# EAGLE library part KSZ8091RNBIA-TR (library SW_Communications)
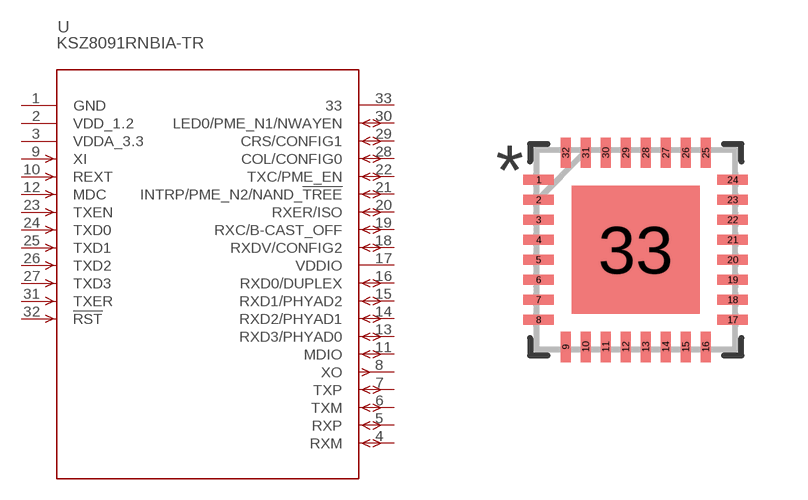
[diagram p2: symbol with the pads of QFN-32; footprint QFN-32]

Designator prefix U

## KSZ8091RNBIA-TR (CATEGORY: Communications; DESCRIPTION: 1/1 Transceiver Full MII, RMII 32-QFN (5x5); MFGS: Microchip Technology; MPNS: KSZ8091RNBIA-TR; PACKAGE: QFN-32)  [QFN-32]
1  GND  pwr
2  VDD_1.2  pwr
3  VDDA_3.3  pwr
4  RXM
5  RXP
6  TXM
7  TXP
8  XO  out
9  XI  in
10  REXT  in
11  MDIO
12  MDC  in
13  RXD3/PHYAD0
14  RXD2/PHYAD1
15  RXD1/PHYAD2
16  RXD0/DUPLEX
17  VDDIO  pwr
18  RXDV/CONFIG2
19  RXC/B-CAST_OFF
20  RXER/ISO
21  INTRP/PME_N2/NAND_!TREE
22  TXC/PME_EN
23  TXEN  in
24  TXD0  in
25  TXD1  in
26  TXD2  in
27  TXD3  in
28  COL/CONFIG0
29  CRS/CONFIG1
30  LED0/PME_N1/NWAYEN
31  TXER  in
32  !RST  in
33  33  pas

## Footprint QFN-32 (pad centres in mm)
smd 0.762 x 0.254: 1 -2.426,1.75; 2 -2.426,1.25; 3 -2.426,0.75; 4 -2.426,0.25; 5 -2.426,-0.25; 6 -2.426,-0.75; 7 -2.426,-1.25; 8 -2.426,-1.75; 17 2.426,-1.75; 18 2.426,-1.25; 19 2.426,-0.75; 20 2.426,-0.25; 21 2.426,0.25; 22 2.426,0.75; 23 2.426,1.25; 24 2.426,1.75
smd 0.254 x 0.762: 9 -1.75,-2.426; 10 -1.25,-2.426; 11 -0.75,-2.426; 12 -0.25,-2.426; 13 0.25,-2.426; 14 0.75,-2.426; 15 1.25,-2.426; 16 1.75,-2.426; 25 1.75,2.426; 26 1.25,2.426; 27 0.75,2.426; 28 0.25,2.426; 29 -0.25,2.426; 30 -0.75,2.426; 31 -1.25,2.426; 32 -1.75,2.426
smd 3.2 x 3.2: 33 0,0